# Altium schematic symbol library ABM3B-8.000MHZ-10-1UT.SchLib: 1 symbol
Pins are listed as number, name and electrical type; pins without a type are passive.

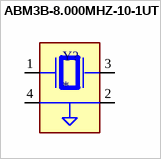
[diagram p0: symbol ABM3B-8.000MHZ-10-1UT]

## ABM3B-8.000MHZ-10-1UT
designator Y?
Crystal 8MHz Â±10ppm (Tol) Â±10ppm (Stability) 10pF FUND 200Ohm 4-Pin CSMD T/R; MP: ABM3B-8.000MHZ-10-1UT; MF: Abracon Corporation; Availability: In Stock; Purchase-URL: https://pricing.snapeda.com/search/part/ABM3B-8.000MHZ-10-1UT/?ref=eda; Check_prices: https://www.snapeda.com/parts/ABM3B-8.000MHZ-10-1UT/Abracon/view-part/?ref=eda; Price: None; Value: *; SnapEDA_Link: https://www.snapeda.com/parts/ABM3B-8.000MHZ-10-1UT/Abracon/view-part/?ref=snap; Package: Package
footprint XTAL_ABM3B-8.000MHZ-10-1UT
pins: 1, 2 GND (power), 3 2, 4 GND